# EAGLE library part SWITCH-DPDT (library act-global-nolan)
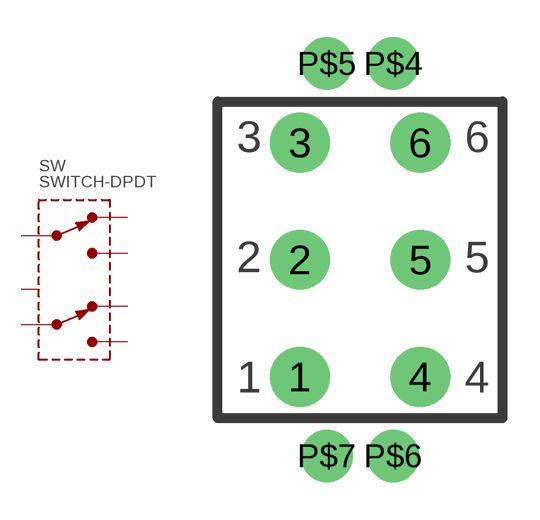
[diagram p11: symbol with the pads of SWITCH-DPDT; footprint SWITCH-DPDT]

Designator prefix SW

## SWITCH-DPDT  [SWITCH-DPDT]
1  1
2  2
3  3
4  4
5  5
6  6
P$4  CASE
P$5  CASE
P$6  CASE
P$7  CASE

## Footprint SWITCH-DPDT (pad centres in mm)
drill 1.6: 1 -2.413,-4.699; 2 -2.413,0; 3 -2.413,4.699; 4 2.413,-4.699; 5 2.413,0; 6 2.413,4.699
drill 1.4: P$4 1.333,7.874; P$5 -1.333,7.874; P$6 1.333,-7.874; P$7 -1.333,-7.874